# Altium footprint library Connector.PcbLib: 116 footprints (part 8 of 8)
Each footprint in its own frame and in the unit in brackets; x right, y up, seen from the top. Pads: shape width x height; smd on the part's side, far side on the other; paste and mask are expansions set on the pad; w line width, h text height; cw(c..) or ccw(c..) is an arc to the next point about the centre after c.
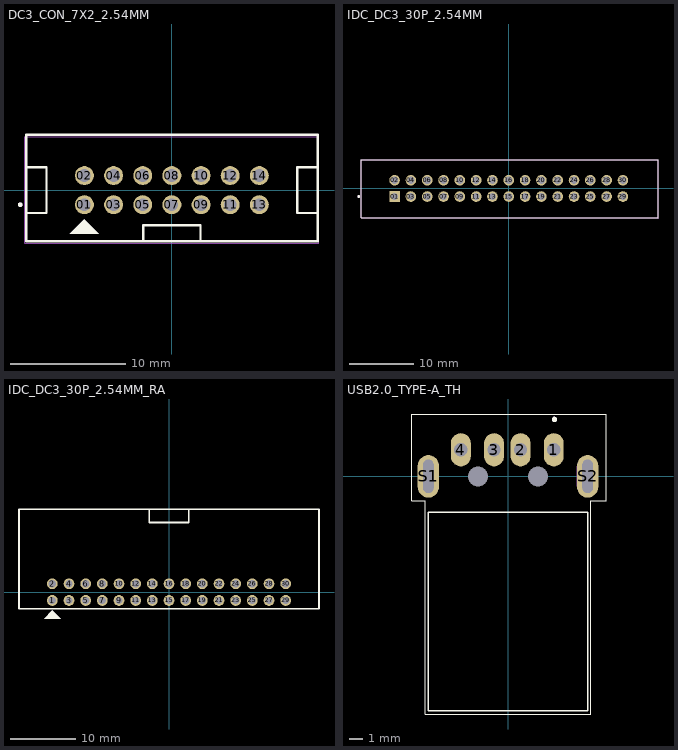
[diagram p7: the footprints below, top view; thin cyan lines are the x and y axes]

## DC3_CON_7X2_2.54MM [mm]
pads (14):
  round 1.65 hole 1.1: 01(-7.62,-1.27) 02(-7.62,1.27) 03(-5.08,-1.27) 04(-5.08,1.27) 05(-2.54,-1.27) 06(-2.54,1.27) 07(0,-1.27) 08(0,1.27) 09(2.54,-1.27) 10(2.54,1.27) 11(5.08,-1.27) 12(5.08,1.27) 13(7.62,-1.27) 14(7.62,1.27)
Top Overlay:
  circle w0.2: c-13.22,-1.27 r0.1
  region: -6.35,-3.81 -8.89,-3.81 -7.62,-2.54
  lines w0.203: -2.5,-4.318 -2.5,-3.048 2.5,-3.048 2.5,-4.318 ; 12.7,-2 10.922,-2 10.922,2 12.7,2 ; -12.7,-4.445 12.7,-4.445 12.7,4.826 5.839,4.826 -5.839,4.826 -12.7,4.826 -12.7,-4.445 ; -12.7,-2 -12.7,2 -12.446,2 -10.922,2 -10.922,-2 -12.446,-2 -12.7,-2
Mechanical 13:
  circle w0.2: c-13.22,-1.27 r0.1
Mechanical 15:
  lines w0.05: -12.82,-4.63 12.82,-4.63 12.82,4.63 -12.82,4.63 -12.82,-4.63
3D body "HTST-107-02-T-D.stp": height 8.89, standoff -4.57, extent -12.7,-4.445 12.7,4.826

## IDC_DC3_30P_2.54MM [mm]
pads (30):
  rect 1.65x1.65 hole 1.1: 01(-17.78,-1.27)
  round 1.65 hole 1.1: 02(-17.78,1.27) 03(-15.24,-1.27) 04(-15.24,1.27) 05(-12.7,-1.27) 06(-12.7,1.27) 07(-10.16,-1.27) 08(-10.16,1.27) 09(-7.62,-1.27) 10(-7.62,1.27) 11(-5.08,-1.27) 12(-5.08,1.27) 13(-2.54,-1.27) 14(-2.54,1.27) 15(0,-1.27) 16(0,1.27) 17(2.54,-1.27) 18(2.54,1.27) 19(5.08,-1.27) 20(5.08,1.27) 21(7.62,-1.27) 22(7.62,1.27) 23(10.16,-1.27) 24(10.16,1.27) 25(12.7,-1.27) 26(12.7,1.27) 27(15.24,-1.27) 28(15.24,1.27) 29(17.78,-1.27) 30(17.78,1.27)
Top Overlay:
  circle w0.2: c-23.38,-1.27 r0.1
  lines w0.127: -22.987,-4.572 -22.987,4.445 23.241,4.445 23.241,-4.572 -22.987,-4.572
Mechanical 13:
  circle w0.2: c-23.38,-1.27 r0.1
Mechanical 15:
  lines w0.05: 23.241,-4.63 23.189,-4.578 -22.98,-4.578 -22.98,4.445 23.241,4.445
  lines w0.051: 23.168,-4.637 23.241,-4.637 23.241,4.445
3D body "IDC_15X2.STEP": height 8.9, standoff -2.9, extent -22.926,-4.482 23.114,4.318

## IDC_DC3_30P_2.54MM_RA [mm]
height 9.2
pads (30):
  round 1.65 hole 1.1: 1(-17.78,-1.27) 2(-17.78,1.27) 3(-15.24,-1.27) 4(-15.24,1.27) 5(-12.7,-1.27) 6(-12.7,1.27) 7(-10.16,-1.27) 8(-10.16,1.27) 9(-7.62,-1.27) 10(-7.62,1.27) 11(-5.08,-1.27) 12(-5.08,1.27) 13(-2.54,-1.27) 14(-2.54,1.27) 15(0,-1.27) 16(0,1.27) 17(2.54,-1.27) 18(2.54,1.27) 19(5.08,-1.27) 20(5.08,1.27) 21(7.62,-1.27) 22(7.62,1.27) 23(10.16,-1.27) 24(10.16,1.27) 25(12.7,-1.27) 26(12.7,1.27) 27(15.24,-1.27) 28(15.24,1.27) 29(17.78,-1.27) 30(17.78,1.27)
Top Overlay:
  region: -17.78,-2.794 -19.05,-4.064 -16.51,-4.064
  lines w0.254: -22.86,-2.506 22.86,-2.506 22.86,12.641 -22.86,12.641 -22.86,-2.506 ; -3,10.61 3,10.61 3,12.61 -3,12.61 -3,10.61
3D body "75867-133LF--3DModel-STEP-510211.STEP": height 9.33, standoff -3.12, extent -22.655,-1.58 22.655,12.64

## USB2.0_TYPE-A_TH [mm] "USB 2.0 TYPE A"
height 4.5
pads (8):
  oval 1.5x2.5 hole 1: 1(3.449,2) 2(0.949,2) 3(-1.051,2) 4(-3.551,2)
  round 1.1 hole 1.5 unplated: None(-2.25,0) None(2.25,0)
  oval 1.6x3.2 hole 0.8 slot 2.5 at 90 deg: S1(-6,0) S2(6,0)
Top Overlay:
  circle w0.2: c3.499,4.294 r0.1
  lines w0.05: -7.239,-1.85 -6.25,-1.85 -6.25,-17.9 6.25,-17.9 6.25,-1.85 7.391,-1.85 7.391,4.699 -7.239,4.699 -7.239,-1.85
  lines w0.127: -6,-17.65 -6,-2.7 ; -6,-17.65 -6,-2.7 ; -6,-17.65 6,-17.65 ; -6,-17.65 6,-17.65 ; -6,-2.7 6,-2.7 ; -6,-2.7 6,-2.7 ; -6,-2.7 6,-2.7 ; -6,-2.7 6,-2.7 ; 6,-17.65 6,-2.7 ; 6,-17.65 6,-2.7
Mechanical 1:
  lines w0: -6.2,-0.75 ccw(c-5.7,-0.75) -5.2,-0.75 -5.2,0.75 ccw(c-5.7,0.75) -6.2,0.75 -6.2,-0.75 ; 5.2,-0.75 ccw(c5.7,-0.75) 6.2,-0.75 6.2,0.75 ccw(c5.7,0.75) 5.2,0.75 5.2,-0.75
Mechanical 4:
  circle w0.2: c3.499,4.294 r0.1
  circle w0.2: c3.499,4.294 r0.1
3D body "User Library-USB 2_0 Type A Male v2.step": height 4.5, standoff -2.5, extent -6.179,-18.091 6.248,3.511